# EAGLE library part POLOLU-DRV8825 (library drv8825)
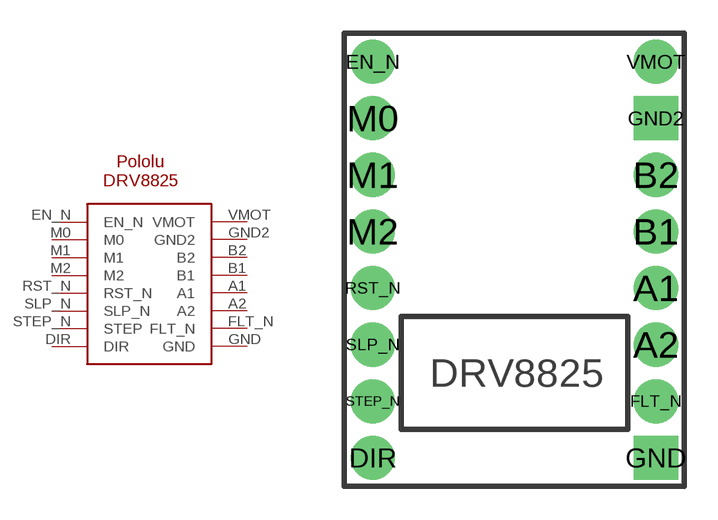
[diagram p0: symbol with the pads of POLOLU-DRV8825; footprint POLOLU-DRV8825]

Designator prefix IC

## POLOLU-DRV8825  [POLOLU-DRV8825]
A1  A1
A2  A2
B1  B1
B2  B2
DIR  DIR
EN_N  EN_N
FLT_N  FLT_N
GND  GND
GND2  GND2
M0  M0
M1  M1
M2  M2
RST_N  RST_N
SLP_N  SLP_N
STEP_N  STEP
VMOT  VMOT

## Footprint POLOLU-DRV8825 (pad centres in mm)
drill 0.8 pad 1.981: A1 6.35,-1.27; A2 6.35,-3.81; B1 6.35,1.27; B2 6.35,3.81; DIR -6.35,-8.89; EN_N -6.35,8.89; FLT_N 6.35,-6.35; M0 -6.35,6.35; M1 -6.35,3.81; M2 -6.35,1.27; RST_N -6.35,-1.27; SLP_N -6.35,-3.81; STEP_N -6.35,-6.35; VMOT 6.35,8.89
drill 0.8 pad 1.981 square: GND 6.35,-8.89; GND2 6.35,6.35